# Altium schematic symbol library IPW65R037C6.SchLib: 1 symbol
Pins are listed as number, name and electrical type; pins without a type are passive.

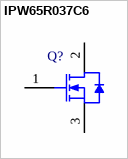
[diagram p0: symbol IPW65R037C6]

## IPW65R037C6
designator Q?
N-Channel CoolMOS C6 Power-Transistor, 650 V VDS, 83.2 A ID, -55 to 150 degC, PG-TO247-3-44, Tube, Green; Manufacturer: Infineon; PartNumber: IPW65R037C6; Green: TRUE; ID (max): 83.2 A; IDpuls (max): 297 A; Polarity: N; Ptot (max): 500 W; QG: 330 nC; RDS (on) (max): 37 mOhm; Rth: 0.25 K/W; RthJA (max): 62 K/W; VDS (max): 650 V; VGS(th) (max): 3.5 V; VGS(th) (min): 2.5 V; DatasheetVersion: Rev. 2.0; PackageVersion: Rev. 03; PackageReference: PG-TO247-3-44; PackageDescription: 3-Pin Plastic (Green) Transistor Single Outline Package, 15.94 x 20.95 mm Body, 5.44 mm Pitch; Supplier 1: Mouser; Supplier Part Number 1: 726-IPW65R037C6; Halogen-free: available; Packing: Tube; RthJC (max): 0.25 K/W; Technology: CoolMOS C6; Mounting Technology: Through Hole; ComponentLink1Description: Manufacturer URL; ComponentLink1URL: http://www.infineon.com/; ComponentLink2Description: Datasheet; ComponentLink2URL: http://www.infineon.com/dgdl/IPW65R037C6_2_0.pdf?folderId=db3a3043163797a6011637d4bae7003b&fileId=db3a3043337a914d0133877a719210a9; ComponentLink3Description: Package Specification; ComponentLink3URL: http://www.infineon.com/cms/packages/Leaded_and_through-hole/P-PG-TO247/P-PG-TO247-3-44.html?__locale=en
footprint INF-PG-TO247-3-44 (FM, 3-Leads, Body 5.02x15.94mm, Pitch 5.44mm)
pins: 1 GATE, 2 DRAIN, 3 SOURCE